# Altium footprint library Resistor.PcbLib: 12 footprints
Each footprint in its own frame and in the unit in brackets; x right, y up, seen from the top. Pads: shape width x height; smd on the part's side, far side on the other; paste and mask are expansions set on the pad; w line width, h text height; cw(c..) or ccw(c..) is an arc to the next point about the centre after c.
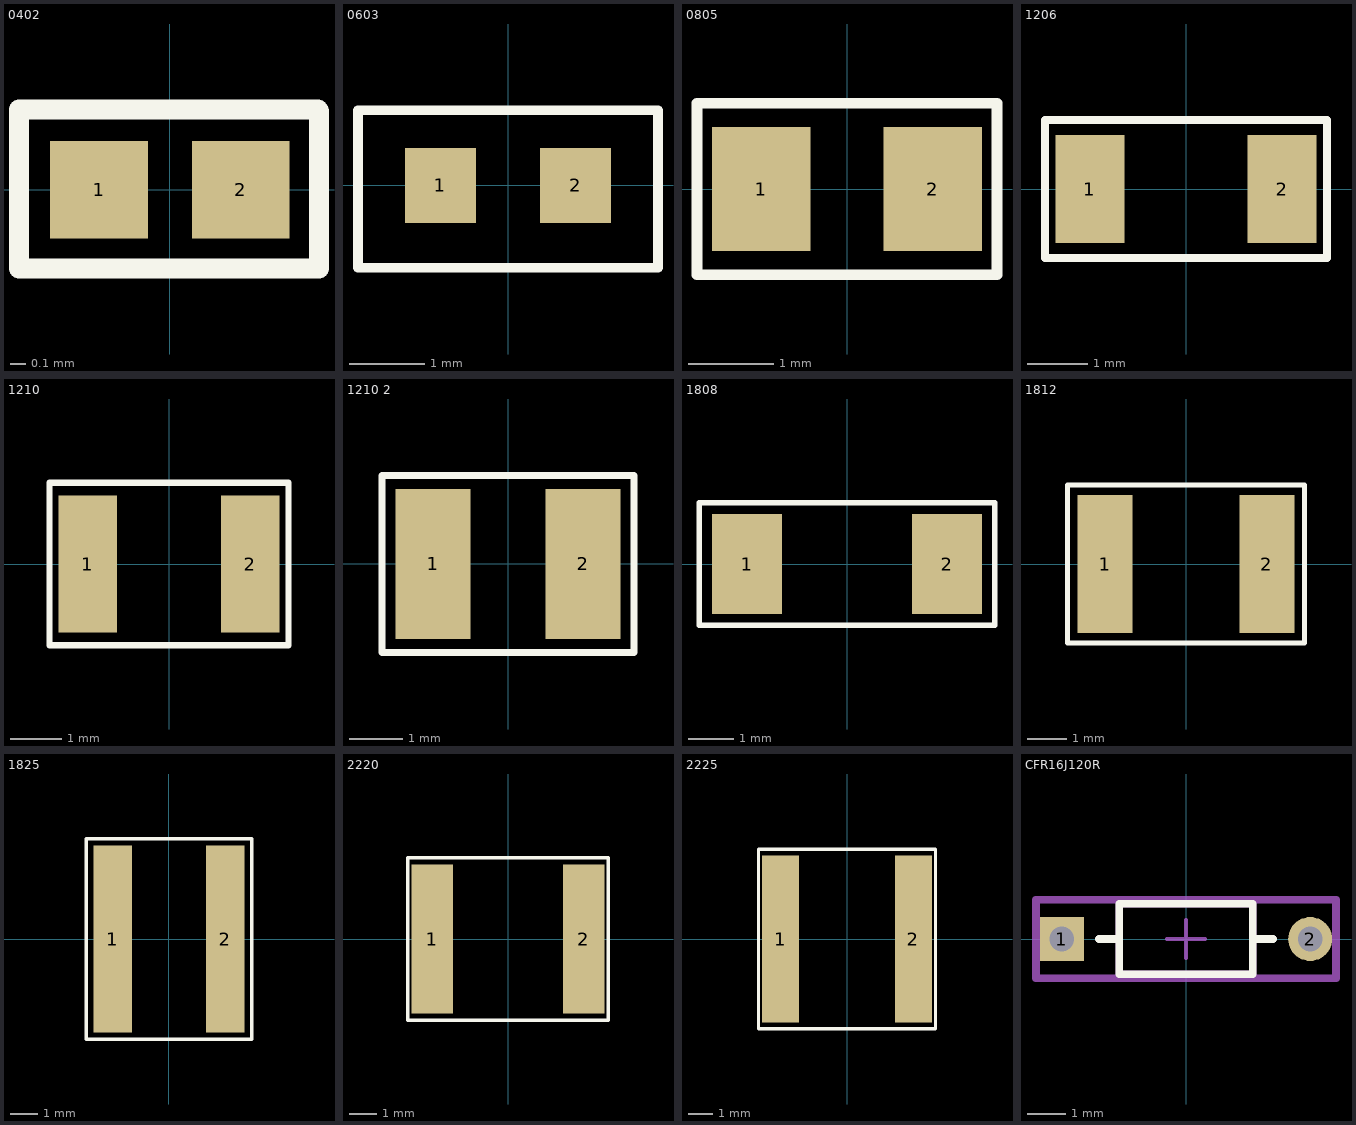
[diagram p0: the footprints below, top view; thin cyan lines are the x and y axes]

## 0402 [mm]
pads (2):
  rect 0.62x0.62 smd: 1(-0.45,0) 2(0.45,0)
Top Overlay:
  lines w0.127: -0.958,0.5 -0.958,0 -0.958,-0.5 0.947,-0.5 0.947,0 0.947,0.5 ; -0.958,0.508 0.942,0.508

## 0603 [mm]
pads (2):
  rect 0.95x1 smd: 1(-0.9,0) 2(0.9,0)
Top Overlay:
  lines w0.127: 1.75,1 0,1 ; 0,1 2,1 2,-1.1 -2,-1.1 -2,1 0,1

## 0805 [mm]
pads (2):
  rect 1.15x1.45 smd: 1(-1,0) 2(1,0)
Top Overlay:
  lines w0.127: 1.75,-1 -1.75,-1 -1.75,1 1.75,1 1.75,-0.995

## 1206 [mm]
pads (2):
  rect 1.15x1.8 smd: 1(-1.6,0) 2(1.6,0)
Top Overlay:
  lines w0.127: -2.35,1.15 0,1.15 ; -2.35,1.15 -2.35,0 -2.35,-1.15 2.35,-1.15 2.35,1.15 ; -2.35,1.15 0,1.15 ; 0,1.15 2.35,1.15 ; 0,1.15 2.35,1.15

## 1210 [mm]
pads (2):
  rect 1.15x2.7 smd: 1(-1.6,0) 2(1.6,0)
Top Overlay:
  lines w0.127: -2.35,-1.6 0,-1.6 2.35,-1.6 2.35,1.6 0,1.6 -2.35,1.6 -2.35,-1.6

## 1210 2 [mm]
pads (2):
  rect 1.4x2.8 smd: 1(-1.4,0) 2(1.4,0)
Top Overlay:
  lines w0.127: -2.35,-1.65 -2.35,1.65 -1.175,1.65 1.175,1.65 2.35,1.65 2.35,-1.65 -2.35,-1.65

## 1808 [mm]
pads (2):
  rect 1.55x2.2 smd: 1(-2.2,0) 2(2.2,0)
Top Overlay:
  lines w0.127: -3.25,-1.35 -3.25,1.35 -1.625,1.35 1.625,1.35 3.25,1.35 3.25,-1.35 1.625,-1.35 -1.625,-1.35 -3.25,-1.35

## 1812 [mm]
pads (2):
  rect 1.4x3.5 smd: 1(-2.05,0) 2(2.05,0)
Top Overlay:
  lines w0.127: -3,-2 -1.5,-2 1.5,-2 3,-2 3,2 1.5,2 -1.5,2 -3,2 -3,-2

## 1825 [mm]
pads (2):
  rect 1.4x6.8 smd: 1(-2.05,0) 2(2.05,0)
Top Overlay:
  lines w0.127: -3,-3.65 -3,3.65 -1.5,3.65 1.5,3.65 3,3.65 3,-3.65 1.5,-3.65 -1.5,-3.65 -3,-3.65

## 2220 [mm]
pads (2):
  rect 1.5x5.4 smd: 1(-2.75,0) 2(2.75,0)
Top Overlay:
  lines w0.127: -3.65,-2.95 -3.65,2.95 3.65,2.95 3.65,-2.95 1.825,-2.95 -1.825,-2.95 -3.65,-2.95

## 2225 [mm]
pads (2):
  rect 1.5x6.8 smd: 1(-2.7,0) 2(2.7,0)
Top Overlay:
  lines w0.127: -3.6,-3.65 -3.6,3.65 -1.8,3.65 1.8,3.65 3.6,3.65 3.6,-3.65 1.8,-3.65 -1.8,-3.65 -3.6,-3.65

## CFR16J120R [mm] "FP-CFR16-MFG"
pads (2):
  rect 1.15x1.15 hole 0.65 paste-1000 mask+0: 1(-3.25,0)
  round 1.15 hole 0.65 paste-1000 mask+0: 2(3.25,0)
Top Overlay:
  lines w0.2: -2.275,0 -1.75,0 ; 1.75,0 2.275,0 ; -1.75,-0.925 1.75,-0.925 1.75,0.925 -1.75,0.925 -1.75,-0.925
Mechanical 5:
  lines w0.2: -3.925,-1.025 3.925,-1.025 3.925,1.025 -3.925,1.025 -3.925,-1.025
  text ".Designator" at 0,0.188 h1
Mechanical 13:
  lines w0.2: -1.75,-0.925 1.75,-0.925 1.75,0.925 -1.75,0.925 -1.75,-0.925
Mechanical 15:
  lines w0.2: -3.925,-1.025 3.925,-1.025 3.925,1.025 -3.925,1.025 -3.925,-1.025
Mechanical 16:
  lines w0.1: -0.5,0 0.5,0 ; 0,-0.5 0,0.5
3D body "Res_TE_Connectivity_CFR16J120R_eec.STEP": height 0.25, standoff 0, extent -3.925,-1.025 3.925,1.025